# Altium footprint library TMM-103-01-S-D-SM.PcbLib: 1 footprints
Each footprint in its own frame and in the unit in brackets; x right, y up, seen from the top. Pads: shape width x height; smd on the part's side, far side on the other; paste and mask are expansions set on the pad; w line width, h text height; cw(c..) or ccw(c..) is an arc to the next point about the centre after c.
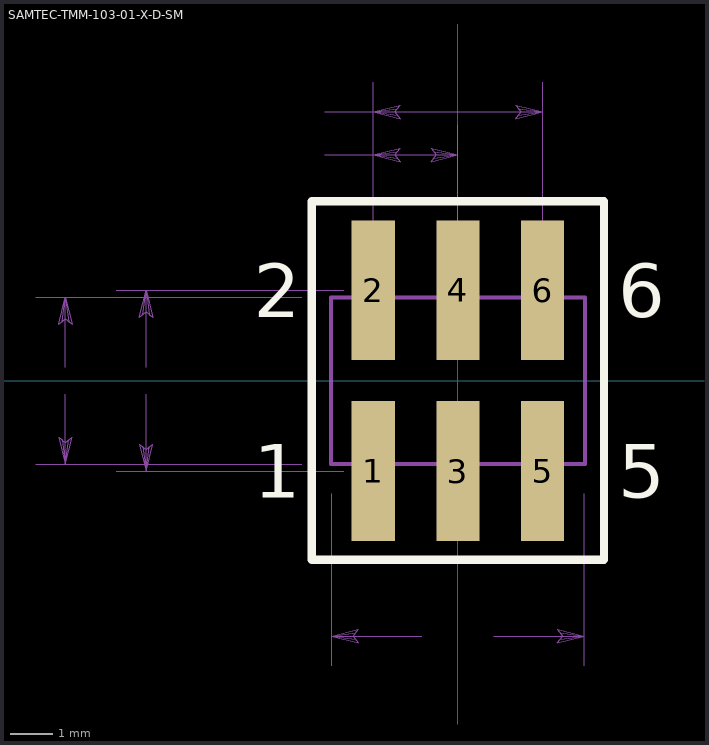
[diagram p0: the footprint, top view; thin cyan lines are the x and y axes]

## SAMTEC-TMM-103-01-X-D-SM [mm]
pads (6):
  rect 1.02x3.3 smd mask+0: 1(-2,-2.134) 2(-2,2.134) 3(0,-2.134) 4(0,2.134) 5(2,-2.134) 6(2,2.134)
Top Overlay:
  lines w0.2: -3.45,-4.235 3.45,-4.235 3.45,4.235 -3.45,4.235 -3.45,-4.235
  text "6" at 3.791,1.499 h1.27
  text "5" at 3.791,-2.769 h1.27
  text "2" at -4.82,1.499 h1.27
  text "1" at -4.82,-2.769 h1.27
Mechanical 13:
  drawing of 178 lines, arcs and shapes, not listed
  text "6" at 3.791,1.499 h1.27
  text "5" at 3.791,-2.769 h1.27
  text "5.969" at -0.66,-6.16 h0.25
  text "4.000" at -4.661,6.223 h0.25
  text "2.000" at -4.661,5.207 h0.25
  text "4.267" at -8.026,-0.127 h0.25
  text "2" at -4.82,1.499 h1.27
  text "1" at -4.82,-2.769 h1.27
  text "3.937" at -9.931,-0.127 h0.25